# EAGLE library part ENC624J600 (library microchip-encx24j600)
MICROCHIP ENC624J600 Stand-Alone 10/100 Ethernet Controller with SPI or Parallel Interface
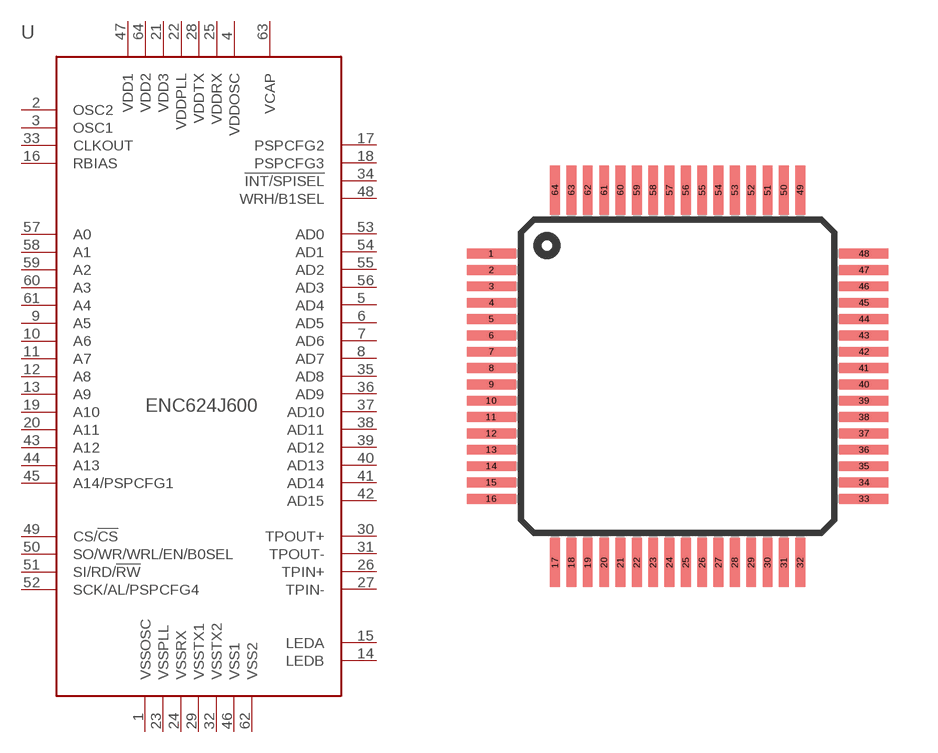
[diagram p1: symbol with the pads of TQFP-64; footprint TQFP-64]

Designator prefix -

## ENC624J600  [TQFP-64]
1  VSSOSC
2  OSC2
3  OSC1
4  VDDOSC
5  AD4
6  AD5
7  AD6
8  AD7
9  A5
10  A6
11  A7
12  A8
13  A9
14  LEDB
15  LEDA
16  RBIAS
17  PSPCFG2
18  PSPCFG3
19  A10
20  A11
21  VDD3
22  VDDPLL
23  VSSPLL
24  VSSRX
25  VDDRX
26  TPIN+
27  TPIN-
28  VDDTX
29  VSSTX1
30  TPOUT+
31  TPOUT-
32  VSSTX2
33  CLKOUT
34  !INT/SPISEL
35  AD8
36  AD9
37  AD10
38  AD11
39  AD12
40  AD13
41  AD14
42  AD15
43  A12
44  A13
45  A14/PSPCFG1
46  VSS1
47  VDD1
48  WRH/B1SEL
49  CS/!CS
50  SO/WR/WRL/EN/B0SEL
51  SI/RD/!RW
52  SCK/AL/PSPCFG4
53  AD0
54  AD1
55  AD2
56  AD3
57  A0
58  A1
59  A2
60  A3
61  A4
62  VSS2
63  VCAP
64  VDD2

## Footprint TQFP-64 (pad centres in mm)
Thin Quad Flat Package - 64 Pins
smd 1.5 x 0.3: 1 -5.7,3.75; 2 -5.7,3.25; 3 -5.7,2.75; 4 -5.7,2.25; 5 -5.7,1.75; 6 -5.7,1.25; 7 -5.7,0.75; 8 -5.7,0.25; 9 -5.7,-0.25; 10 -5.7,-0.75; 11 -5.7,-1.25; 12 -5.7,-1.75; 13 -5.7,-2.25; 14 -5.7,-2.75; 15 -5.7,-3.25; 16 -5.7,-3.75; 33 5.7,-3.75; 34 5.7,-3.25; 35 5.7,-2.75; 36 5.7,-2.25; 37 5.7,-1.75; 38 5.7,-1.25; 39 5.7,-0.75; 40 5.7,-0.25; 41 5.7,0.25; 42 5.7,0.75; 43 5.7,1.25; 44 5.7,1.75; 45 5.7,2.25; 46 5.7,2.75; 47 5.7,3.25; 48 5.7,3.75
smd 0.3 x 1.5: 17 -3.75,-5.7; 18 -3.25,-5.7; 19 -2.75,-5.7; 20 -2.25,-5.7; 21 -1.75,-5.7; 22 -1.25,-5.7; 23 -0.75,-5.7; 24 -0.25,-5.7; 25 0.25,-5.7; 26 0.75,-5.7; 27 1.25,-5.7; 28 1.75,-5.7; 29 2.25,-5.7; 30 2.75,-5.7; 31 3.25,-5.7; 32 3.75,-5.7; 49 3.75,5.7; 50 3.25,5.7; 51 2.75,5.7; 52 2.25,5.7; 53 1.75,5.7; 54 1.25,5.7; 55 0.75,5.7; 56 0.25,5.7; 57 -0.25,5.7; 58 -0.75,5.7; 59 -1.25,5.7; 60 -1.75,5.7; 61 -2.25,5.7; 62 -2.75,5.7; 63 -3.25,5.7; 64 -3.75,5.7